# EAGLE library part MC100EP58DTG (library on-semiconductor-01)
3.3V / 5V ECL 2:1 Multiplexer
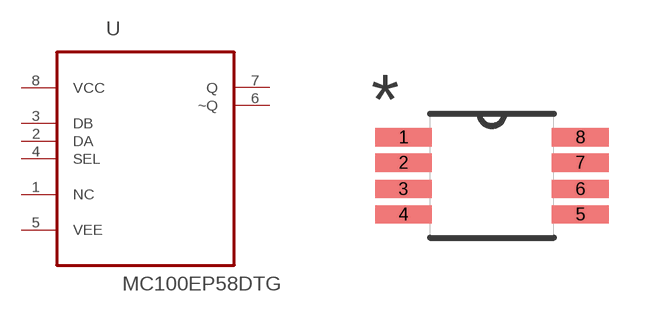
[diagram p128: symbol with the pads of SOP65P490X110-8N; footprint SOP65P490X110-8N]

Designator prefix U

## MC100EP58DTG (MPN: MC100EP58DTG; OC_FARNELL: 1150415; OC_NEWARK: 45J0949; PACKAGE: TSSOP-8; SUPPLIER: ON SEMICONDUCTOR)  [SOP65P490X110-8N]
1  NC  nc
2  DA  in
3  DB  in
4  SEL  in
5  VEE  pwr
6  ~Q  out
7  Q  out
8  VCC  pwr

## Footprint SOP65P490X110-8N (pad centres in mm)
smd 1.422 x 0.457: 1 -2.21,0.965; 2 -2.21,0.33; 3 -2.21,-0.33; 4 -2.21,-0.965; 5 2.21,-0.965; 6 2.21,-0.33; 7 2.21,0.33; 8 2.21,0.965